# Altium footprint library SOP16P65_500X640X120L60X24N.PcbLib: 1 footprints
Each footprint in its own frame and in the unit in brackets; x right, y up, seen from the top. Pads: shape width x height; smd on the part's side, far side on the other; paste and mask are expansions set on the pad; w line width, h text height; cw(c..) or ccw(c..) is an arc to the next point about the centre after c.
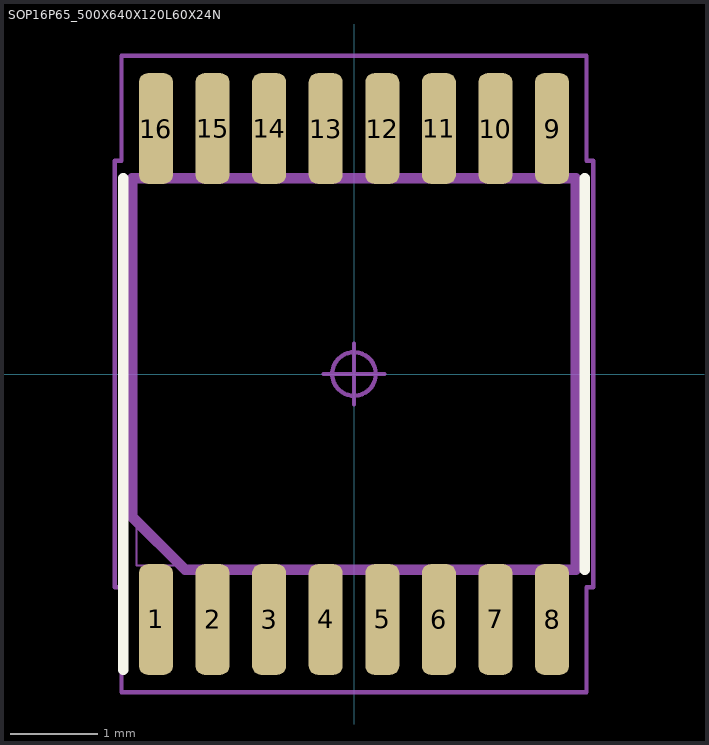
[diagram p0: the footprint, top view; thin cyan lines are the x and y axes]

## SOP16P65_500X640X120L60X24N [mm] "Small Outline Pkg (SOP), 0.65 mm pitch; 16 pin, 5.00 mm L X 4.40 mm W X 1.20 mm H body"
height 1.2
pads (16):
  rrect51% 0.39x1.27 smd: 1(-2.275,-2.82) 2(-1.625,-2.82) 3(-0.975,-2.82) 4(-0.325,-2.82) 5(0.325,-2.82) 6(0.975,-2.82) 7(1.625,-2.82) 8(2.275,-2.82) 9(2.275,2.82) 10(1.625,2.82) 11(0.975,2.82) 12(0.325,2.82) 13(-0.325,2.82) 14(-0.975,2.82) 15(-1.625,2.82) 16(-2.275,2.82)
Top Overlay:
  lines w0.12: -2.65,-3.395 -2.65,-2.25 -2.65,2.25 ; 2.65,-2.25 2.65,2.25
Mechanical 3:
  lines w0.12: -2.55,-1.641 -2.55,2.25 2.55,2.25 2.55,-2.25 -1.941,-2.25 -2.55,-1.641
Mechanical 5:
  lines w0.025: -2.5,-2.2 2.5,-2.2 2.5,2.2 -2.5,2.2 -2.5,-2.2 ; -2.398,-3.2 -2.398,-2.6 -2.153,-2.6 -2.153,-3.2 -2.398,-3.2 ; -2.398,2.6 -2.398,3.2 -2.153,3.2 -2.153,2.6 -2.398,2.6 ; -1.747,-3.2 -1.747,-2.6 -1.502,-2.6 -1.502,-3.2 -1.747,-3.2 ; -1.747,2.6 -1.747,3.2 -1.502,3.2 -1.502,2.6 -1.747,2.6 ; -1.098,-3.2 -1.098,-2.6 -0.853,-2.6 -0.853,-3.2 -1.098,-3.2 ; -1.098,2.6 -1.098,3.2 -0.853,3.2 -0.853,2.6 -1.098,2.6 ; -0.447,-3.2 -0.447,-2.6 -0.202,-2.6 -0.202,-3.2 -0.447,-3.2 ; -0.447,2.6 -0.447,3.2 -0.202,3.2 -0.202,2.6 -0.447,2.6 ; 0.202,-3.2 0.202,-2.6 0.447,-2.6 0.447,-3.2 0.202,-3.2 ; 0.202,2.6 0.202,3.2 0.447,3.2 0.447,2.6 0.202,2.6 ; 0.853,-3.2 0.853,-2.6 1.098,-2.6 1.098,-3.2 0.853,-3.2 ; 0.853,2.6 0.853,3.2 1.098,3.2 1.098,2.6 0.853,2.6 ; 1.502,-3.2 1.502,-2.6 1.747,-2.6 1.747,-3.2 1.502,-3.2 ; 1.502,2.6 1.502,3.2 1.747,3.2 1.747,2.6 1.502,2.6 ; 2.153,-3.2 2.153,-2.6 2.398,-2.6 2.398,-3.2 2.153,-3.2 ; 2.153,2.6 2.153,3.2 2.398,3.2 2.398,2.6 2.153,2.6
Mechanical 7:
  circle w0.05: c0,0 r0.25
  lines w0.05: -0.35,0 0.35,0 ; 0,-0.35 0,0.35 ; -2.75,-2.45 -2.67,-2.45 -2.67,-3.655 2.67,-3.655 2.67,-2.45 2.75,-2.45 2.75,2.45 2.67,2.45 2.67,3.655 -2.67,3.655 -2.67,2.45 -2.75,2.45 -2.75,-2.45
Mechanical 9:
  text "'.Designator'" at -5.334,-0.381 h1
3D body "SOP16P65_500X640X120L60X24.STEP": height 1.2, standoff 0, extent -2.5,-3.2 2.5,3.2
3D body: height 1.04, standoff 0, extent -2.75,-3.655 2.75,3.655